# Altium footprint library PcbLibpolyESP.PcbLib: 18 footprints (part 1 of 2)
Each footprint in its own frame and in the unit in brackets; x right, y up, seen from the top. Pads: shape width x height; smd on the part's side, far side on the other; paste and mask are expansions set on the pad; w line width, h text height; cw(c..) or ccw(c..) is an arc to the next point about the centre after c.
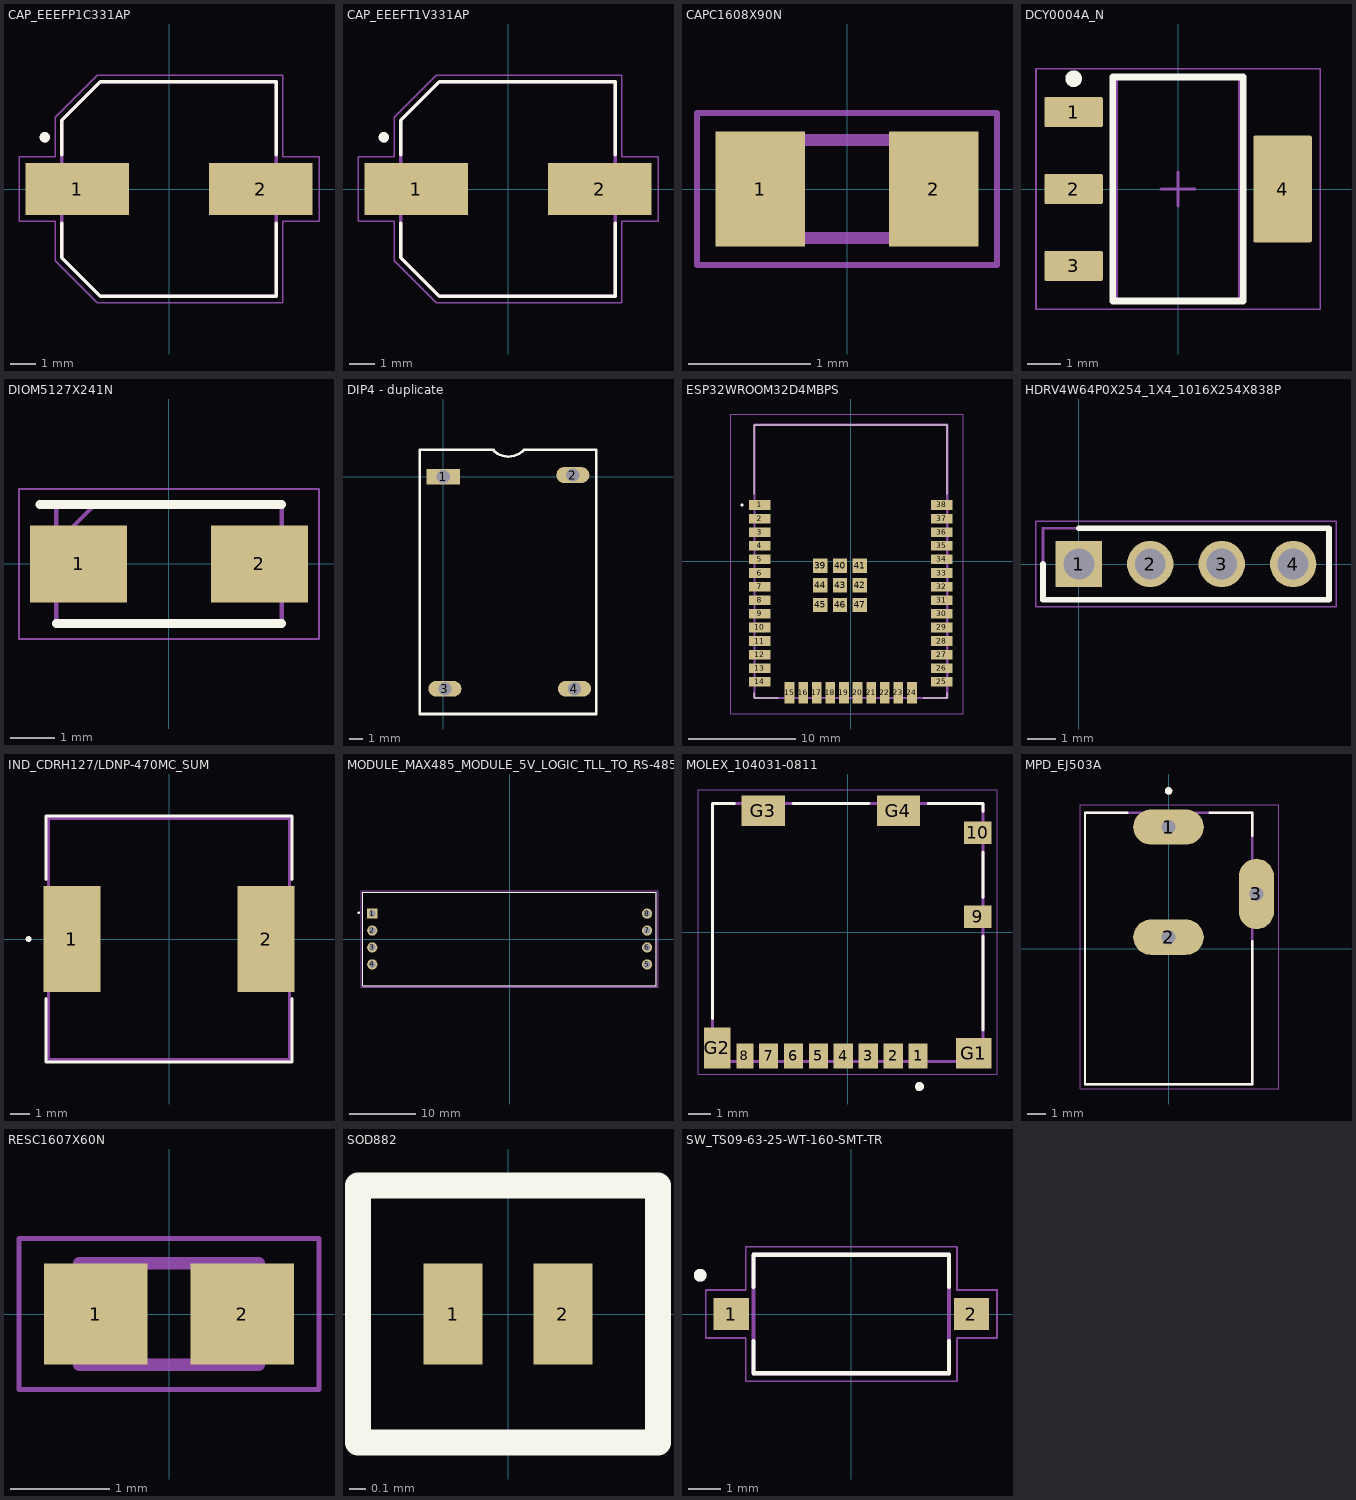
[diagram p0: the footprints below, top view; thin cyan lines are the x and y axes]

## CAP_EEEFP1C331AP [mm]
height 10.2
pads (2):
  rect 4x2 smd: 1(-3.55,0) 2(3.55,0)
Top Overlay:
  circle w0.2: c-4.8,2 r0.1
  lines w0.127: -4.15,-1.32 -4.15,-2.65 -2.65,-4.15 4.15,-4.15 4.15,-1.32 ; -4.15,1.32 -4.15,2.65 -2.65,4.15 4.15,4.15 4.15,1.32
Mechanical 13:
  circle w0.2: c-4.8,2 r0.1
  lines w0.127: -4.15,-2.65 -4.15,2.65 -2.65,4.15 4.15,4.15 4.15,-4.15 -2.65,-4.15 -4.15,-2.65
Mechanical 15:
  lines w0.05: -5.8,-1.25 -4.4,-1.25 -4.4,-2.775 -2.775,-4.4 4.4,-4.4 4.4,-1.25 5.8,-1.25 5.8,1.25 4.4,1.25 4.4,4.4 -2.775,4.4 -4.4,2.775 -4.4,1.25 -5.8,1.25 -5.8,-1.25
3D body "step_temp.STEP": height 10.2, standoff 0, extent -4.85,-4.15 4.85,4.15

## CAP_EEEFT1V331AP [mm]
height 10.2
pads (2):
  rect 4x2 smd: 1(-3.55,0) 2(3.55,0)
Top Overlay:
  circle w0.2: c-4.8,2 r0.1
  lines w0.127: -4.15,-1.32 -4.15,-2.65 -2.65,-4.15 4.15,-4.15 4.15,-1.32 ; -4.15,1.32 -4.15,2.65 -2.65,4.15 4.15,4.15 4.15,1.32
Mechanical 13:
  circle w0.2: c-4.8,2 r0.1
  lines w0.127: -4.15,-2.65 -2.65,-4.15 4.15,-4.15 4.15,4.15 -2.65,4.15 -4.15,2.65 -4.15,-2.65
Mechanical 15:
  lines w0.05: -5.8,-1.25 -5.8,1.25 -4.4,1.25 -4.4,2.775 -2.775,4.4 4.4,4.4 4.4,1.25 5.8,1.25 5.8,-1.25 4.4,-1.25 4.4,-4.4 -2.775,-4.4 -4.4,-2.775 -4.4,-1.25 -5.8,-1.25
3D body "step_temp.STEP": height 10.2, standoff 0, extent -4.85,-4.15 4.85,4.15

## CAPC1608X90N [mm]
pads (2):
  rect 0.73x0.94 smd: 1(-0.71,0) 2(0.71,0)
Mechanical 13:
  lines w0.1: -0.8,-0.4 -0.8,0.4 0.8,0.4 0.8,-0.4 -0.8,-0.4
Mechanical 15:
  lines w0.05: -1.225,-0.62 -1.225,0.62 1.225,0.62 1.225,-0.62 -1.225,-0.62
3D body "CL10A106MP8NNNC.stp": height 0.9, standoff 0, extent -0.8,-0.4 0.8,0.4

## DCY0004A_N [mm] "SOT223, 4-Leads, Body 6.7x3.7mm, Pitch 2.3mm, IPC Medium Density"
height 1.8
pads (4):
  rrect11% 1.75x0.9 smd: 1(-3.125,2.3) 2(-3.125,0) 3(-3.125,-2.3)
  rrect6% 1.75x3.2 smd: 4(3.125,0)
Top Overlay:
  circle w0.25: c-3.125,3.3 r0.125
  lines w0.2: -1.95,-3.35 1.95,-3.35 1.95,3.35 -1.95,3.35 -1.95,-3.35
Mechanical 1:
  text ".Designator" at -1.651,-0.254 h0.8
Top 3D Body:
  lines w0.1: -1.85,-3.35 1.85,-3.35 1.85,3.35 -1.85,3.35 -1.85,-3.35
Top Courtyard:
  lines w0.05: -4.25,-3.6 4.25,-3.6 4.25,3.6 -4.25,3.6 -4.25,-3.6
  lines w0.1: -0.5,0 0.5,0 ; 0,-0.5 0,0.5
3D body "SOT-223.stp": height 1.62, standoff -0.03, extent -3.5,-3.25 3.5,3.25

## DIOM5127X241N [mm]
pads (2):
  rect 2.2x1.75 smd: 1(-2.05,0) 2(2.05,0)
Top Overlay:
  lines w0.2: -2.925,1.35 2.552,1.35 ; -2.552,-1.35 2.552,-1.35
Mechanical 13:
  lines w0.1: -2.552,0.475 -1.678,1.35 ; -2.552,-1.35 -2.552,1.35 2.552,1.35 2.552,-1.35 -2.552,-1.35
Mechanical 15:
  lines w0.05: -3.4,-1.7 -3.4,1.7 3.4,1.7 3.4,-1.7 -3.4,-1.7
3D body "SS34-MS.stp": height 2.41, standoff 0, extent -2.552,-1.35 2.552,1.35

## DIP4 - duplicate [mm]
pads (4):
  rect 2.5x1.2 hole 1: 1(0,0)
  oval 2.5x1.2 hole 1: 2(9.779,0.127) 3(0.127,-16.002) 4(9.906,-16.002)
Top Overlay:
  lines w0.2: 3.745,2.032 ccw(c4.92,3.129) 6.096,2.032 11.557,2.032 11.557,-17.907 -1.778,-17.907 -1.778,2.032 3.81,2.032
3D body "mini360.step": height 7.89, standoff 3.69, extent -0.92,-17.018 11.08,1.075
3D body "TSW-101-07-F-S.stp": height 7.89, standoff -3.04, extent 8.636,-17.272 11.176,-14.732
3D body "TSW-101-07-F-S.stp": height 7.89, standoff -3.04, extent 8.509,-1.143 11.049,1.397
3D body "TSW-101-07-F-S.stp": height 7.89, standoff -3.04, extent -1.143,-17.272 1.397,-14.732
3D body "TSW-101-07-F-S.stp": height 7.89, standoff -3.04, extent -1.27,-1.27 1.27,1.27

## ESP32WROOM32D4MBPS [mm]
pads (47):
  rect 2x0.9 smd: 1(-8.5,5.26) 2(-8.5,3.99) 3(-8.5,2.72) 4(-8.5,1.45) 5(-8.5,0.18) 6(-8.5,-1.09) 7(-8.5,-2.36) 8(-8.5,-3.63) 9(-8.5,-4.9) 10(-8.5,-6.17) 11(-8.5,-7.44) 12(-8.5,-8.71) 13(-8.5,-9.98) 14(-8.5,-11.25) 25(8.5,-11.25) 26(8.5,-9.98) 27(8.5,-8.71) 28(8.5,-7.44) 29(8.5,-6.17) 30(8.5,-4.9) 31(8.5,-3.63) 32(8.5,-2.36) 33(8.5,-1.09) 34(8.5,0.18) 35(8.5,1.45) 36(8.5,2.72) 37(8.5,3.99) 38(8.5,5.26)
  rect 0.9x2 smd: 15(-5.715,-12.25) 16(-4.445,-12.25) 17(-3.175,-12.25) 18(-1.905,-12.25) 19(-0.635,-12.25) 20(0.635,-12.25) 21(1.905,-12.25) 22(3.175,-12.25) 23(4.445,-12.25) 24(5.715,-12.25)
  rect 1.33x1.33 smd: 39(-2.835,-0.405) 40(-1,-0.405) 41(0.835,-0.405) 42(0.835,-2.24) 43(-1,-2.24) 44(-2.835,-2.24) 45(-2.835,-4.075) 46(-1,-4.075) 47(0.835,-4.075)
Top Overlay:
  lines w0.1: -9,-12.25 -9,-12.75 -6.75,-12.75 ; -9,6.25 -9,12.75 9,12.75 9,6.25 ; 6.75,-12.75 9,-12.75 9,-12.25
  lines w0.2: -10.2,5.25 ccw(c-10.15,5.25) -10.1,5.25 ; -10.2,5.25 cw(c-10.15,5.25) -10.1,5.25 ; -10.2,5.25 ccw(c-10.15,5.25) -10.1,5.25
Mechanical 13:
  lines w0.2: -9,-12.75 -9,12.75 9,12.75 9,-12.75 -9,-12.75
Mechanical 15:
  lines w0.1: -11.2,-14.25 -11.2,13.75 10.5,13.75 10.5,-14.25 -11.2,-14.25
3D body "ESP32-WROOM-32D__4MB_PS_.stp": height 3.1, standoff 0, extent -9,-12.75 9,12.75

## HDRV4W64P0X254_1X4_1016X254X838P [mm]
pads (4):
  rect 1.65x1.65 hole 1.1: 1(0,0)
  round 1.65 hole 1.1: 2(2.54,0) 3(5.08,0) 4(7.62,0)
Top Overlay:
  lines w0.2: -1.27,0 -1.27,-1.27 8.89,-1.27 8.89,1.27 0,1.27
Top 3D Body:
  lines w0.1: -1.27,-1.27 -1.27,1.27 8.89,1.27 8.89,-1.27 -1.27,-1.27
Top Courtyard:
  lines w0.05: -1.52,-1.52 -1.52,1.52 9.14,1.52 9.14,-1.52 -1.52,-1.52
3D body "TSW-104-07-F-S.stp": height 8.38, standoff -2.54, extent -1.27,-1.27 8.89,1.27

## IND_CDRH127/LDNP-470MC_SUM [mil]
pads (2):
  rect 114x213 smd: 1(-195,0) 2(195,0)
Top Overlay:
  lines w6: -247,-120 -247,-247 247,-247 247,-120 ; -247,120 -247,247 247,247 247,120 ; -285,0 cw(c-282,0) -279,0 cw(c-282,0) -285,0
Mechanical 13:
  lines w0: -242,0 cw(c-239,0) -236,0 cw(c-239,0) -242,0
  lines w6: -242,-242 -242,0 -242,242 242,242 242,-242 -242,-242
3D body "step_temp.STEP": height 314.96, standoff 0, extent -236.22,-236.22 236.22,236.22

## MODULE_MAX485_MODULE_5V_LOGIC_TLL_TO_RS-485_CONVERTER [mm]
pads (8):
  rect 1.53x1.53 hole 1.02: 1(-20.6,3.81)
  round 1.53 hole 1.02: 2(-20.6,1.27) 3(-20.6,-1.27) 4(-20.6,-3.81) 5(20.62,-3.81) 6(20.62,-1.27) 7(20.62,1.27) 8(20.62,3.81)
Top Overlay:
  circle w0.2: c-22.632,3.94 r0.1
  lines w0.127: -22,-7 22,-7 22,7 -22,7 -22,-7
Mechanical 13:
  circle w0.2: c-22.632,3.94 r0.1
  lines w0.127: -22,-7 22,-7 22,7 -22,7 -22,-7
Mechanical 15:
  lines w0.05: -22.25,-7.25 -22.25,7.25 22.25,7.25 22.25,-7.25 -22.25,-7.25
3D body "rs485.stp": height 11, standoff -9, extent -22.127,-6.761 21.873,7.239

## MOLEX_104031-0811 [mm]
height 1.57
pads (14):
  rect 0.85x1.1 smd: 1(3.105,-5.45) 2(2.005,-5.45) 3(0.905,-5.45) 4(-0.195,-5.45) 5(-1.295,-5.45) 6(-2.395,-5.45) 7(-3.495,-5.45)
  rect 0.75x1.1 smd: 8(-4.545,-5.45)
  rect 1.2x1 smd: 9(5.74,0.7) 10(5.74,4.4)
  rect 1.55x1.35 smd: G1(5.565,-5.325)
  rect 1.17x1.8 smd: G2(-5.755,-5.1)
  rect 1.9x1.35 smd: G3(-3.73,5.375) G4(2.24,5.375)
Top Overlay:
  circle w0.2: c3.168,-6.801 r0.1
  lines w0.127: -5.975,-3.806 -5.975,5.7 -5.003,5.7 ; -2.413,5.7 0.939,5.7 ; 3.556,5.7 5.975,5.7 5.975,5.334 ; 5.975,-4.3 5.975,-0.15 ; 5.975,1.55 5.975,3.55
Top 3D Body:
  circle w0.2: c3.168,-6.801 r0.1
  lines w0.127: -5.975,-5.7 5.975,-5.7 5.975,5.7 -5.975,5.7 -5.975,-5.7
Top Courtyard:
  lines w0.05: -6.59,-6.25 -6.59,6.3 6.59,6.3 6.59,-6.25 -6.59,-6.25
3D body "1040310811.stp": height 1.43, standoff -0.02, extent -5.975,-5.715 5.975,5.685

## MPD_EJ503A [mm]
height 11
pads (3):
  oval 3.8x1.9 hole 0.76 square: 1(0,6.54) 2(0,0.61)
  oval 1.9x3.8 hole 0.76 square: 3(4.73,2.94)
Top Overlay:
  circle w0.2: c0,8.49 r0.1
  lines w0.127: -2.22,7.31 -4.5,7.31 -4.5,-7.31 4.5,-7.31 4.5,0.4 ; 2.22,7.31 4.5,7.31 4.5,6.08
Mechanical 13:
  circle w0.2: c0,8.49 r0.1
  lines w0.127: -4.5,-7.31 4.5,-7.31 4.5,7.31 -4.5,7.31 -4.5,-7.31
Mechanical 15:
  lines w0.05: -4.75,-7.56 5.93,-7.56 5.93,7.74 -4.75,7.74 -4.75,-7.56
3D body "step_temp.STEP": height 11, standoff -4.3, extent -4.5,-7.31 4.88,7.31

## PCBComponent_1 [mm]

## RESC1607X60N [mm]
pads (2):
  rect 1.04x1.02 smd: 1(-0.735,0) 2(0.735,0)
Mechanical 13:
  lines w0.127: -0.9,-0.51 0.9,-0.51 0.9,0.51 -0.9,0.51 -0.9,-0.51
Mechanical 15:
  lines w0.05: -1.508,-0.761 1.508,-0.761 1.508,0.761 -1.508,0.761 -1.508,-0.761
3D body "step_temp.STEP": height 0.55, standoff 0, extent -0.8,-0.4 0.8,0.4

## SOD882 [mm]
pads (2):
  rect 0.35x0.6 smd: 1(-0.325,0) 2(0.325,0)
Top Overlay:
  lines w0.152: -0.889,-0.762 -0.889,0.762 0.889,0.762 0.889,-0.762 -0.889,-0.762
3D body "AQ3045-01ETG.stp": height 0.44, standoff 0.01, extent -0.535,-0.335 0.535,0.34

## SW_TS09-63-25-WT-160-SMT-TR [mm]
height 2.5
pads (2):
  rect 1.1x1 smd: 1(-3.75,0) 2(3.75,0)
Top Overlay:
  circle w0.2: c-4.72,1.21 r0.1
  lines w0.127: -3.05,-0.85 -3.05,-1.85 3.05,-1.85 3.05,-0.85 ; -3.05,0.85 -3.05,1.85 3.05,1.85 3.05,0.85
Mechanical 13:
  circle w0.2: c-4.72,1.21 r0.1
  lines w0.127: -3.05,-1.85 -3.05,1.85 3.05,1.85 3.05,-1.85 -3.05,-1.85
Mechanical 15:
  lines w0.05: -4.55,-0.75 -3.3,-0.75 -3.3,-2.1 3.3,-2.1 3.3,-0.75 4.55,-0.75 4.55,0.75 3.3,0.75 3.3,2.1 -3.3,2.1 -3.3,0.75 -4.55,0.75 -4.55,-0.75
3D body "step_temp.STEP": height 2.5, standoff -0.05, extent -4.05,-1.85 4.05,1.85